# Altium integrated library TI Power Management PCMCIA and USB.IntLib: 328 symbols (part 7 of 14)
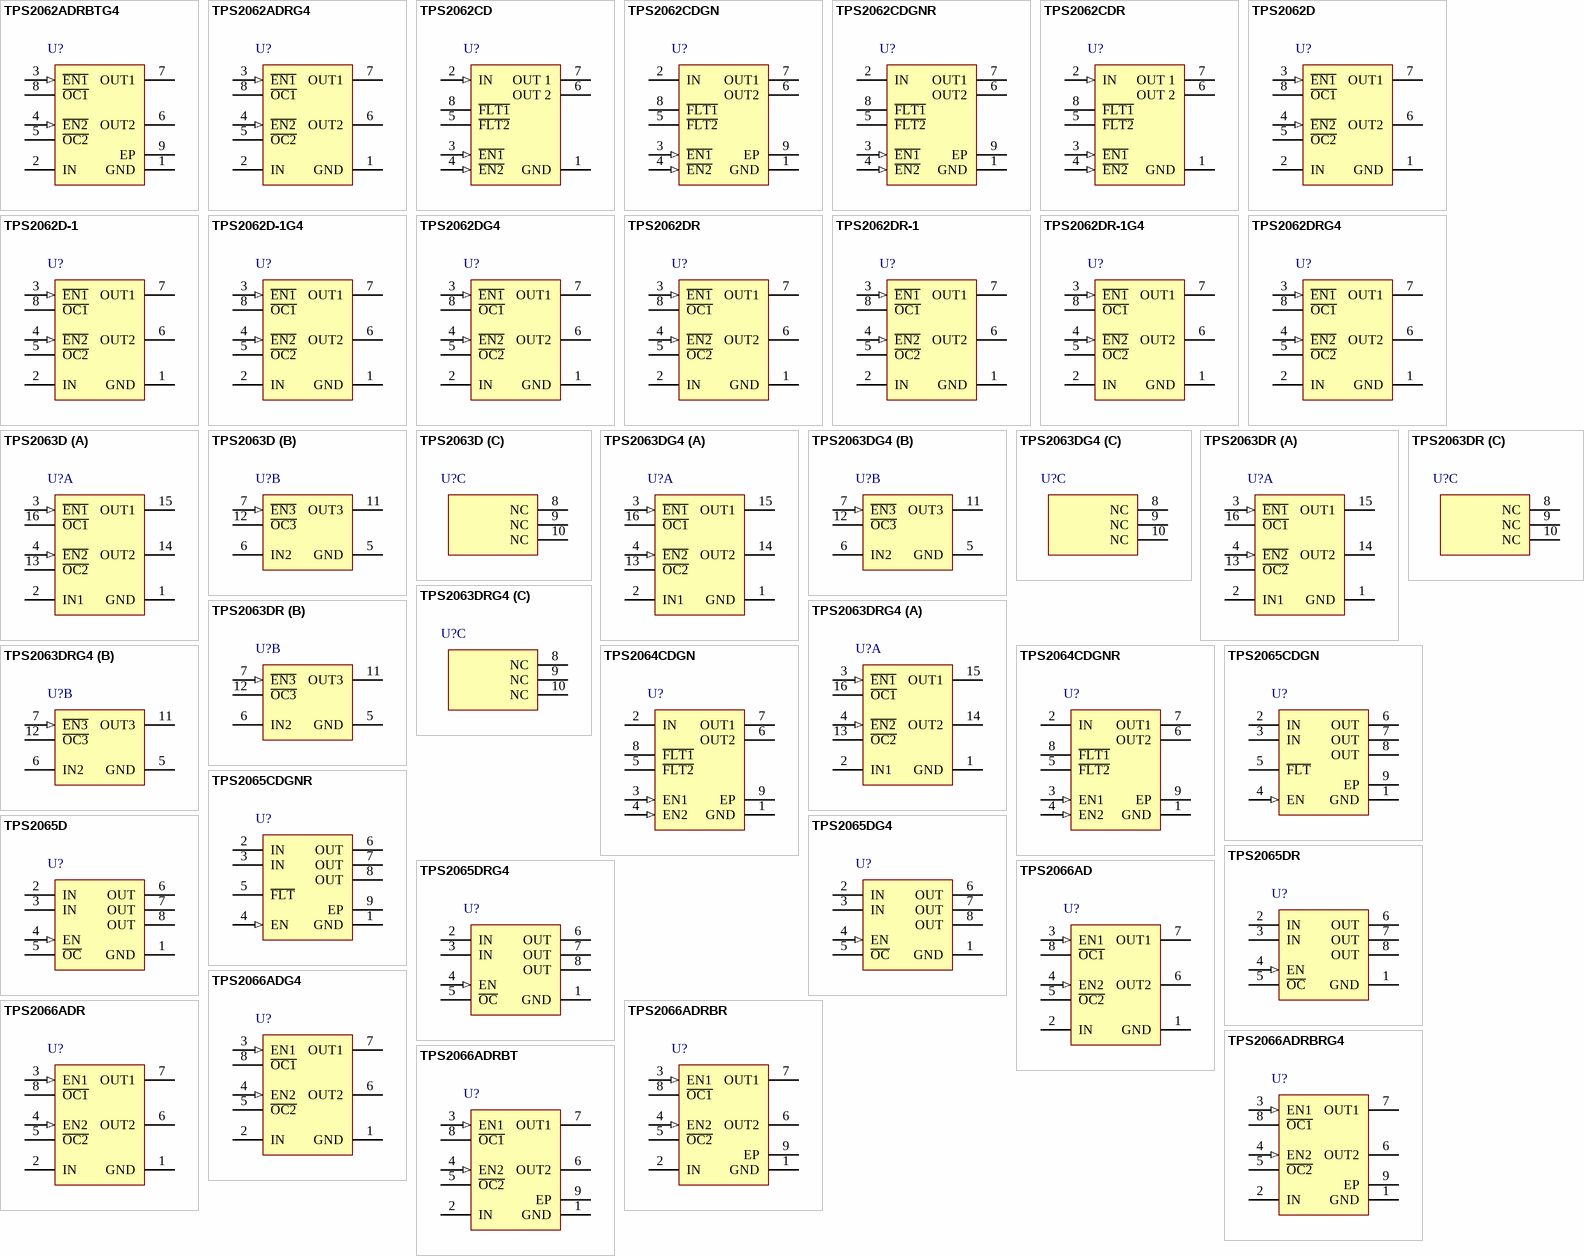
[diagram p16: symbols TPS2062ADRBTG4 to TPS2066ADRBT]

## TPS2062DR-1
designator U?
Current-Limited, Power-Distribution Switch with Output Discharge Resistor, 1.5 A Current Limit, -40 to 85 degC, 8-pin SOIC (D), Green (RoHS & no Sb/Br); Manufacturer: Texas Instruments; PartNumber: TPS2062DR-1; Continuous Current(Max)(A): 1; Current Limit(A): 1.5; Discharge Function: TRUE; Enable: Active Low; Number of Switches: 2; Rating: Catalog; rDS(on) per FET(Typ)(mOhms): 70; Vin(Max)(V): 5.5; Vin(Min)(V): 2.7; DatasheetVersion: SLVS714A; PackageVersion: revM, Jun-2011; PackageReference: D8; PackageDescription: 8-Pin Plastic Small Outline Integrated Circuit, 4.9 x 3.9 mm, Pitch 1.27 mm Pitch; Supplier 1: Digi-Key; Supplier Part Number 1: 296-21658-2-ND; Supplier 2: Digi-Key; Supplier Part Number 2: 296-21658-1-ND; Supplier 3: Digi-Key; Supplier Part Number 3: 296-21658-6-ND; Supplier 4: Newark; Supplier Part Number 4: 34M0139; Supplier 5: Mouser; Supplier Part Number 5: 595-TPS2062DR-1; Eco-Plan: Green (RoHS & no Sb/Br); Mounting Technology: Surface Mount; Code_JEDEC: MS-012AA; ComponentLink1Description: Datasheet; ComponentLink1URL: http://www.ti.com/general/docs/lit/getliterature.tsp?genericPartNumber=TPS2062-1&fileType=pdf
footprint D8_N (SOIC, 8-Leads, Body 4.9x3.9mm, Pitch 1.27mm, IPC Medium Density)
footprint D8_L (SOIC, 8-Leads, Body 4.9x3.9mm, Pitch 1.27mm, IPC High Density)
footprint D8_M (SOIC, 8-Leads, Body 4.9x3.9mm, Pitch 1.27mm, IPC Low Density)
pins: 1 GND (power) "Ground connection", 2 IN (power) "Input voltage; connect a 0.1 uF or greater ceramic capacitor from IN to GND as close to the IC as possible", 3 ~{EN1} (in) "Enable input, logic low turns on channel 1", 4 ~{EN2} (in) "Enable input, logic high turns on channel 2", 5 ~{OC2} (oc) "Active-low open-drain output, asserted during over-current for channel 2", 6 OUT2 (power) "Power-switch output for channel 2", 7 OUT1 (power) "Power-switch output for channel 1", 8 ~{OC1} (oc) "Active-low open-drain output, asserted during over-current for channel 1"

## TPS2062DR-1G4
designator U?
Current-Limited, Power-Distribution Switch with Output Discharge Resistor, 1.5 A Current Limit, -40 to 85 degC, 8-pin SOIC (D), Green (RoHS & no Sb/Br); Manufacturer: Texas Instruments; PartNumber: TPS2062DR-1G4; Continuous Current(Max)(A): 1; Current Limit(A): 1.5; Discharge Function: TRUE; Enable: Active Low; Number of Switches: 2; Rating: Catalog; rDS(on) per FET(Typ)(mOhms): 70; Vin(Max)(V): 5.5; Vin(Min)(V): 2.7; DatasheetVersion: SLVS714A; PackageVersion: revM, Jun-2011; PackageReference: D8; PackageDescription: 8-Pin Plastic Small Outline Integrated Circuit, 4.9 x 3.9 mm, Pitch 1.27 mm Pitch; Supplier 1: Digi-Key; Supplier Part Number 1: TPS2062DR-1G4-ND; Supplier 2: Newark; Supplier Part Number 2: 41M5846; Supplier 3: Mouser; Supplier Part Number 3: 595-TPS2062DR-1G4; Eco-Plan: Green (RoHS & no Sb/Br); Mounting Technology: Surface Mount; Code_JEDEC: MS-012AA; ComponentLink1Description: Datasheet; ComponentLink1URL: http://www.ti.com/general/docs/lit/getliterature.tsp?genericPartNumber=TPS2062-1&fileType=pdf
footprint D8_N (SOIC, 8-Leads, Body 4.9x3.9mm, Pitch 1.27mm, IPC Medium Density)
footprint D8_L (SOIC, 8-Leads, Body 4.9x3.9mm, Pitch 1.27mm, IPC High Density)
footprint D8_M (SOIC, 8-Leads, Body 4.9x3.9mm, Pitch 1.27mm, IPC Low Density)
pins: 1 GND (power) "Ground connection", 2 IN (power) "Input voltage; connect a 0.1 uF or greater ceramic capacitor from IN to GND as close to the IC as possible", 3 ~{EN1} (in) "Enable input, logic low turns on channel 1", 4 ~{EN2} (in) "Enable input, logic high turns on channel 2", 5 ~{OC2} (oc) "Active-low open-drain output, asserted during over-current for channel 2", 6 OUT2 (power) "Power-switch output for channel 2", 7 OUT1 (power) "Power-switch output for channel 1", 8 ~{OC1} (oc) "Active-low open-drain output, asserted during over-current for channel 1"

## TPS2062DRG4
designator U?
Dual 1 A Current-Limited, Power-Distribution Switch, 1.5 A Current Limit, -40 to 85 degC, 8-pin SOIC (D), Green (RoHS & no Sb/Br); Manufacturer: Texas Instruments; PartNumber: TPS2062DRG4; Continuous Current(Max)(A): 1; Current Limit(A): 1.5; Enable: Active Low; NEMKO: TRUE; Number of Switches: 2; Rating: Catalog; rDS(on) per FET(Typ)(mOhms): 70; Vin(Max)(V): 5.5; Vin(Min)(V): 2.7; DatasheetVersion: SLVS490I; PackageVersion: revM, Jun-2011; PackageReference: D8; PackageDescription: 8-Pin Plastic Small Outline Integrated Circuit, 4.9 x 3.9 mm, Pitch 1.27 mm Pitch; Supplier 1: Digi-Key; Supplier Part Number 1: TPS2062DRG4-ND; Supplier 2: Newark; Supplier Part Number 2: 31K7810; Supplier 3: Mouser; Supplier Part Number 3: 595-TPS2062DRG4; Eco-Plan: Green (RoHS & no Sb/Br); UL Listed: TRUE; Mounting Technology: Surface Mount; Code_JEDEC: MS-012AA; ComponentLink1Description: Datasheet; ComponentLink1URL: http://www.ti.com/general/docs/lit/getliterature.tsp?genericPartNumber=TPS2062&fileType=pdf
footprint D8_N (SOIC, 8-Leads, Body 4.9x3.9mm, Pitch 1.27mm, IPC Medium Density)
footprint D8_L (SOIC, 8-Leads, Body 4.9x3.9mm, Pitch 1.27mm, IPC High Density)
footprint D8_M (SOIC, 8-Leads, Body 4.9x3.9mm, Pitch 1.27mm, IPC Low Density)
pins: 1 GND (power) "Ground", 2 IN (power) "Input voltage", 3 ~{EN1} (in) "Enable input, logic low turns on power switch IN-OUT1", 4 ~{EN2} (in) "Enable input, logic low turns on power switch IN-OUT2", 5 ~{OC2} (oc) "Overcurrent, open-drain output, active low, IN-OUT2", 6 OUT2 (power) "Power-switch output, IN-OUT2", 7 OUT1 (power) "Power-switch output, IN-OUT1", 8 ~{OC1} (oc) "Overcurrent, open-drain output, active low, IN-OUT1"

## TPS2063D
designator U?
Triple 1 A Current-Limited, Power-Distribution Switch, 1.5 A Current Limit, -40 to 85 degC, 16-pin SOIC (D), Green (RoHS & no Sb/Br); Manufacturer: Texas Instruments; PartNumber: TPS2063D; Continuous Current(Max)(A): 1; Current Limit(A): 1.5; Enable: Active Low; NEMKO: TRUE; Number of Switches: 3; Rating: Catalog; rDS(on) per FET(Typ)(mOhms): 70; Vin(Max)(V): 5.5; Vin(Min)(V): 2.7; DatasheetVersion: SLVS490I; PackageVersion: revM, Jun-2011; PackageReference: D16; PackageDescription: 16-Pin Plastic Small Outline Integrated Circuit, 9.9 x 3.9 mm, Pitch 1.27 mm Pitch; Supplier 1: Digi-Key; Supplier Part Number 1: 296-34588-5-ND; Supplier 2: Newark; Supplier Part Number 2: 44J2502; Supplier 3: Mouser; Supplier Part Number 3: 595-TPS2063D; Eco-Plan: Green (RoHS & no Sb/Br); UL Listed: TRUE; Mounting Technology: Surface Mount; Code_JEDEC: MS-012AC; ComponentLink1Description: Datasheet; ComponentLink1URL: http://www.ti.com/general/docs/lit/getliterature.tsp?genericPartNumber=TPS2063&fileType=pdf
footprint D16_N (SOIC, 16-Leads, Body 9.9x3.9mm, Pitch 1.27mm, IPC Medium Density)
footprint D16_L (SOIC, 16-Leads, Body 9.9x3.9mm, Pitch 1.27mm, IPC High Density)
footprint D16_M (SOIC, 16-Leads, Body 9.9x3.9mm, Pitch 1.27mm, IPC Low Density)
part A pins: 1 GND (power) "Ground", 2 IN1 (power) "Input voltage for OUT1 and OUT2", 3 ~{EN1} (in) "Enable input, logic low turns on power switch IN1-OUT1", 4 ~{EN2} (in) "Enable input, logic low turns on power switch IN1-OUT2", 13 ~{OC2} (oc) "Overcurrent, open-drain output, active low, IN1-OUT2", 14 OUT2 (power) "Power-switch output, IN1-OUT2", 15 OUT1 (power) "Power-switch output, IN1-OUT1", 16 ~{OC1} (oc) "Overcurrent, open-drain output, active low, IN1-OUT1"
part B pins: 5 GND (power) "Ground", 6 IN2 (power) "Input voltage for OUT3", 7 ~{EN3} (in) "Enable input, logic low turns on power switch IN2-OUT3", 11 OUT3 (power) "Power-switch output, IN2-OUT3", 12 ~{OC3} (oc) "Overcurrent, open-drain output, active low, IN2-OUT3"
part C pins: 8 NC "No connection", 9 NC "No connection", 10 NC "No connection"

## TPS2063DG4
designator U?
Triple 1 A Current-Limited, Power-Distribution Switch, 1.5 A Current Limit, -40 to 85 degC, 16-pin SOIC (D), Green (RoHS & no Sb/Br); Manufacturer: Texas Instruments; PartNumber: TPS2063DG4; Continuous Current(Max)(A): 1; Current Limit(A): 1.5; Enable: Active Low; NEMKO: TRUE; Number of Switches: 3; Rating: Catalog; rDS(on) per FET(Typ)(mOhms): 70; Vin(Max)(V): 5.5; Vin(Min)(V): 2.7; DatasheetVersion: SLVS490I; PackageVersion: revM, Jun-2011; PackageReference: D16; PackageDescription: 16-Pin Plastic Small Outline Integrated Circuit, 9.9 x 3.9 mm, Pitch 1.27 mm Pitch; Supplier 1: Digi-Key; Supplier Part Number 1: TPS2063DG4-ND; Supplier 2: Newark; Supplier Part Number 2: 61K1872; Supplier 3: Mouser; Supplier Part Number 3: 595-TPS2063DG4; Eco-Plan: Green (RoHS & no Sb/Br); UL Listed: TRUE; Mounting Technology: Surface Mount; Code_JEDEC: MS-012AC; ComponentLink1Description: Datasheet; ComponentLink1URL: http://www.ti.com/general/docs/lit/getliterature.tsp?genericPartNumber=TPS2063&fileType=pdf
footprint D16_N (SOIC, 16-Leads, Body 9.9x3.9mm, Pitch 1.27mm, IPC Medium Density)
footprint D16_L (SOIC, 16-Leads, Body 9.9x3.9mm, Pitch 1.27mm, IPC High Density)
footprint D16_M (SOIC, 16-Leads, Body 9.9x3.9mm, Pitch 1.27mm, IPC Low Density)
part A pins: 1 GND (power) "Ground", 2 IN1 (power) "Input voltage for OUT1 and OUT2", 3 ~{EN1} (in) "Enable input, logic low turns on power switch IN1-OUT1", 4 ~{EN2} (in) "Enable input, logic low turns on power switch IN1-OUT2", 13 ~{OC2} (oc) "Overcurrent, open-drain output, active low, IN1-OUT2", 14 OUT2 (power) "Power-switch output, IN1-OUT2", 15 OUT1 (power) "Power-switch output, IN1-OUT1", 16 ~{OC1} (oc) "Overcurrent, open-drain output, active low, IN1-OUT1"
part B pins: 5 GND (power) "Ground", 6 IN2 (power) "Input voltage for OUT3", 7 ~{EN3} (in) "Enable input, logic low turns on power switch IN2-OUT3", 11 OUT3 (power) "Power-switch output, IN2-OUT3", 12 ~{OC3} (oc) "Overcurrent, open-drain output, active low, IN2-OUT3"
part C pins: 8 NC "No connection", 9 NC "No connection", 10 NC "No connection"

## TPS2063DR
designator U?
Triple 1 A Current-Limited, Power-Distribution Switch, 1.5 A Current Limit, -40 to 85 degC, 16-pin SOIC (D), Green (RoHS & no Sb/Br); Manufacturer: Texas Instruments; PartNumber: TPS2063DR; Continuous Current(Max)(A): 1; Current Limit(A): 1.5; Enable: Active Low; NEMKO: TRUE; Number of Switches: 3; Rating: Catalog; rDS(on) per FET(Typ)(mOhms): 70; Vin(Max)(V): 5.5; Vin(Min)(V): 2.7; DatasheetVersion: SLVS490I; PackageVersion: revM, Jun-2011; PackageReference: D16; PackageDescription: 16-Pin Plastic Small Outline Integrated Circuit, 9.9 x 3.9 mm, Pitch 1.27 mm Pitch; Supplier 1: Digi-Key; Supplier Part Number 1: 296-17386-2-ND; Supplier 2: Digi-Key; Supplier Part Number 2: 296-17386-1-ND; Supplier 3: Digi-Key; Supplier Part Number 3: 296-17386-6-ND; Supplier 4: Newark; Supplier Part Number 4: 44J2503; Supplier 5: Mouser; Supplier Part Number 5: 595-TPS2063DR; Eco-Plan: Green (RoHS & no Sb/Br); UL Listed: TRUE; Mounting Technology: Surface Mount; Code_JEDEC: MS-012AC; ComponentLink1Description: Datasheet; ComponentLink1URL: http://www.ti.com/general/docs/lit/getliterature.tsp?genericPartNumber=TPS2063&fileType=pdf
footprint D16_N (SOIC, 16-Leads, Body 9.9x3.9mm, Pitch 1.27mm, IPC Medium Density)
footprint D16_L (SOIC, 16-Leads, Body 9.9x3.9mm, Pitch 1.27mm, IPC High Density)
footprint D16_M (SOIC, 16-Leads, Body 9.9x3.9mm, Pitch 1.27mm, IPC Low Density)
part A pins: 1 GND (power) "Ground", 2 IN1 (power) "Input voltage for OUT1 and OUT2", 3 ~{EN1} (in) "Enable input, logic low turns on power switch IN1-OUT1", 4 ~{EN2} (in) "Enable input, logic low turns on power switch IN1-OUT2", 13 ~{OC2} (oc) "Overcurrent, open-drain output, active low, IN1-OUT2", 14 OUT2 (power) "Power-switch output, IN1-OUT2", 15 OUT1 (power) "Power-switch output, IN1-OUT1", 16 ~{OC1} (oc) "Overcurrent, open-drain output, active low, IN1-OUT1"
part B pins: 5 GND (power) "Ground", 6 IN2 (power) "Input voltage for OUT3", 7 ~{EN3} (in) "Enable input, logic low turns on power switch IN2-OUT3", 11 OUT3 (power) "Power-switch output, IN2-OUT3", 12 ~{OC3} (oc) "Overcurrent, open-drain output, active low, IN2-OUT3"
part C pins: 8 NC "No connection", 9 NC "No connection", 10 NC "No connection"

## TPS2063DRG4
designator U?
Triple 1 A Current-Limited, Power-Distribution Switch, 1.5 A Current Limit, -40 to 85 degC, 16-pin SOIC (D), Green (RoHS & no Sb/Br); Manufacturer: Texas Instruments; PartNumber: TPS2063DRG4; Continuous Current(Max)(A): 1; Current Limit(A): 1.5; Enable: Active Low; NEMKO: TRUE; Number of Switches: 3; Rating: Catalog; rDS(on) per FET(Typ)(mOhms): 70; Vin(Max)(V): 5.5; Vin(Min)(V): 2.7; DatasheetVersion: SLVS490I; PackageVersion: revM, Jun-2011; PackageReference: D16; PackageDescription: 16-Pin Plastic Small Outline Integrated Circuit, 9.9 x 3.9 mm, Pitch 1.27 mm Pitch; Supplier 1: Digi-Key; Supplier Part Number 1: TPS2063DRG4-ND; Supplier 2: Newark; Supplier Part Number 2: 61K1873; Supplier 3: Mouser; Supplier Part Number 3: 595-TPS2063DRG4; Eco-Plan: Green (RoHS & no Sb/Br); UL Listed: TRUE; Mounting Technology: Surface Mount; Code_JEDEC: MS-012AC; ComponentLink1Description: Datasheet; ComponentLink1URL: http://www.ti.com/general/docs/lit/getliterature.tsp?genericPartNumber=TPS2063&fileType=pdf
footprint D16_N (SOIC, 16-Leads, Body 9.9x3.9mm, Pitch 1.27mm, IPC Medium Density)
footprint D16_L (SOIC, 16-Leads, Body 9.9x3.9mm, Pitch 1.27mm, IPC High Density)
footprint D16_M (SOIC, 16-Leads, Body 9.9x3.9mm, Pitch 1.27mm, IPC Low Density)
part A pins: 1 GND (power) "Ground", 2 IN1 (power) "Input voltage for OUT1 and OUT2", 3 ~{EN1} (in) "Enable input, logic low turns on power switch IN1-OUT1", 4 ~{EN2} (in) "Enable input, logic low turns on power switch IN1-OUT2", 13 ~{OC2} (oc) "Overcurrent, open-drain output, active low, IN1-OUT2", 14 OUT2 (power) "Power-switch output, IN1-OUT2", 15 OUT1 (power) "Power-switch output, IN1-OUT1", 16 ~{OC1} (oc) "Overcurrent, open-drain output, active low, IN1-OUT1"
part B pins: 5 GND (power) "Ground", 6 IN2 (power) "Input voltage for OUT3", 7 ~{EN3} (in) "Enable input, logic low turns on power switch IN2-OUT3", 11 OUT3 (power) "Power-switch output, IN2-OUT3", 12 ~{OC3} (oc) "Overcurrent, open-drain output, active low, IN2-OUT3"
part C pins: 8 NC "No connection", 9 NC "No connection", 10 NC "No connection"

## TPS2064CDGN
designator U?
Dual-Channel, Current-Limited, Power-Distribution Switch, 1.72 to 2.86 A Current Limit, -40 to 85 degC, 8-pin MSOP-PowerPAD (DGN), Green (RoHS & no Sb/Br); Manufacturer: Texas Instruments; PartNumber: TPS2064CDGN; Continuous Current(Max)(A): 1.5; Current Limit Accuracy @ 1A: +/- 25%; Current Limit Topology: Constant-Current; Enable: Active High; Number of Switches: 2; Rating: Catalog; rDS(on) per FET(Typ)(mOhms): 70; Vin(Max)(V): 5.5; Vin(Min)(V): 4.5; DatasheetVersion: SLVSAX6E; PackageVersion: revF, May-2011; PackageReference: DGN8-1760X1425TP; PackageDescription: 8-Pin PowerPAD Plastic Small Outline Package 3 x 3 mm Body ,0.65 mm Pitch, Exposed Pad; Supplier 1: Digi-Key; Supplier Part Number 1: 296-29888-5-ND; Supplier 2: Newark; Supplier Part Number 2: 74T5504; Supplier 3: Mouser; Supplier Part Number 3: 595-TPS2064CDGN; Current Limit(A): 1.72 to 2.86; Eco-Plan: Green (RoHS & no Sb/Br); Mounting Technology: Surface Mount; Code_JEDEC: MO-187-AA-T; ComponentLink1Description: Datasheet; ComponentLink1URL: http://www.ti.com/general/docs/lit/getliterature.tsp?genericPartNumber=TPS2064C&fileType=pdf
footprint DGN8-1760X1425TP_N (TSOP, 8-Leads, Body 3x3mm, Pitch 0.65mm, Thermal Pad 1.89x1.57mm, IPC Medium Density)
footprint DGN8-1760X1425TP_L (TSOP, 8-Leads, Body 3x3mm, Pitch 0.65mm, Thermal Pad 1.89x1.57mm, IPC High Density)
footprint DGN8-1760X1425TP_M (TSOP, 8-Leads, Body 3x3mm, Pitch 0.65mm, Thermal Pad 1.89x1.57mm, IPC Low Density)
pins: 1 GND (power) "Ground connection", 2 IN (power) "Ground connection", 3 EN1 (in) "Enable input channel 1, logic high turns on power switch", 4 EN2 (in) "Enable input channel 2, logic high turns on power switch", 5 ~{FLT2} (hiz) "Active-low open-drain output, asserted during overcurrent, or overtemperature conditions on channel 2", 6 OUT2 (power) "Power-switch output channel 2, connected to load", 7 OUT1 (power) "Power-switch output channel 1, connected to load", 8 ~{FLT1} (hiz) "Active-low open-drain output, asserted during over-current, or overtemperature conditions on channel 1", 9 EP (power) "Internally connected to GND; used to heat-sink the part to the circuit board traces. Connect PAD to GND plane as a heatsink."

## TPS2064CDGNR
designator U?
Dual-Channel, Current-Limited, Power-Distribution Switch, 1.72 to 2.86 A Current Limit, -40 to 85 degC, 8-pin MSOP-PowerPAD (DGN), Green (RoHS & no Sb/Br); Manufacturer: Texas Instruments; PartNumber: TPS2064CDGNR; Continuous Current(Max)(A): 1.5; Current Limit Accuracy @ 1A: +/- 25%; Current Limit Topology: Constant-Current; Enable: Active High; Number of Switches: 2; Rating: Catalog; rDS(on) per FET(Typ)(mOhms): 70; Vin(Max)(V): 5.5; Vin(Min)(V): 4.5; DatasheetVersion: SLVSAX6E; PackageVersion: revF, May-2011; PackageReference: DGN8-1760X1425TP; PackageDescription: 8-Pin PowerPAD Plastic Small Outline Package 3 x 3 mm Body ,0.65 mm Pitch, Exposed Pad; Supplier 1: Digi-Key; Supplier Part Number 1: TPS2064CDGNR-ND; Supplier 2: Newark; Supplier Part Number 2: 74T5505; Supplier 3: Mouser; Supplier Part Number 3: 595-TPS2064CDGNR; Current Limit(A): 1.72 to 2.86; Eco-Plan: Green (RoHS & no Sb/Br); Mounting Technology: Surface Mount; Code_JEDEC: MO-187-AA-T; ComponentLink1Description: Datasheet; ComponentLink1URL: http://www.ti.com/general/docs/lit/getliterature.tsp?genericPartNumber=TPS2064C&fileType=pdf
footprint DGN8-1760X1425TP_N (TSOP, 8-Leads, Body 3x3mm, Pitch 0.65mm, Thermal Pad 1.89x1.57mm, IPC Medium Density)
footprint DGN8-1760X1425TP_L (TSOP, 8-Leads, Body 3x3mm, Pitch 0.65mm, Thermal Pad 1.89x1.57mm, IPC High Density)
footprint DGN8-1760X1425TP_M (TSOP, 8-Leads, Body 3x3mm, Pitch 0.65mm, Thermal Pad 1.89x1.57mm, IPC Low Density)
pins: 1 GND (power) "Ground connection", 2 IN (power) "Ground connection", 3 EN1 (in) "Enable input channel 1, logic high turns on power switch", 4 EN2 (in) "Enable input channel 2, logic high turns on power switch", 5 ~{FLT2} (hiz) "Active-low open-drain output, asserted during overcurrent, or overtemperature conditions on channel 2", 6 OUT2 (power) "Power-switch output channel 2, connected to load", 7 OUT1 (power) "Power-switch output channel 1, connected to load", 8 ~{FLT1} (hiz) "Active-low open-drain output, asserted during over-current, or overtemperature conditions on channel 1", 9 EP (power) "Internally connected to GND; used to heat-sink the part to the circuit board traces. Connect PAD to GND plane as a heatsink."

## TPS2065CDGN
designator U?
Single Channel, Current-Limited USB Power Distribution Switch, 1.55 A Current Limit, -40 to 85 degC, 8-pin MSOP-PowerPAD (DGN), Green (RoHS & no Sb/Br); Manufacturer: Texas Instruments; PartNumber: TPS2065CDGN; Continuous Current(Max)(A): 1; Current Limit(A): 1.55; Discharge Function: TRUE; Enable: Active High; Rating: Catalog; rDS(on) per FET(Typ)(mOhms): 90; Vin(Max)(V): 5.5; Vin(Min)(V): 4.5; DatasheetVersion: SLVSAU6E; PackageVersion: revF, May-2011; PackageReference: DGN8-1760X1425TP; PackageDescription: 8-Pin PowerPAD Plastic Small Outline Package 3 x 3 mm Body ,0.65 mm Pitch, Exposed Pad; Supplier 1: Digi-Key; Supplier Part Number 1: 296-29508-5-ND; Supplier 2: Farnell; Supplier Part Number 2: 2057439; Supplier 3: Newark; Supplier Part Number 3: 64T4206; Supplier 4: Newark; Supplier Part Number 4: 61T6039; Supplier 5: Mouser; Supplier Part Number 5: 595-TPS2065CDGN; Eco-Plan: Green (RoHS & no Sb/Br); Number of Switches: 1; UL Listed: TRUE; Mounting Technology: Surface Mount; Code_JEDEC: MO-187-AA-T; ComponentLink1Description: Datasheet; ComponentLink1URL: http://www.ti.com/general/docs/lit/getliterature.tsp?genericPartNumber=TPS2065C&fileType=pdf
footprint DGN8-1760X1425TP_N (TSOP, 8-Leads, Body 3x3mm, Pitch 0.65mm, Thermal Pad 1.89x1.57mm, IPC Medium Density)
footprint DGN8-1760X1425TP_L (TSOP, 8-Leads, Body 3x3mm, Pitch 0.65mm, Thermal Pad 1.89x1.57mm, IPC High Density)
footprint DGN8-1760X1425TP_M (TSOP, 8-Leads, Body 3x3mm, Pitch 0.65mm, Thermal Pad 1.89x1.57mm, IPC Low Density)
pins: 1 GND (power) "Ground connection", 2 IN (power) "Input voltage and power-switch drain; connect a 0.1 uF or greater ceramic capacitor from IN to GND close to the IC", 3 IN (power) "Input voltage and power-switch drain; connect a 0.1 uF or greater ceramic capacitor from IN to GND close to the IC", 4 EN (in) "Enable input, logic high turns on power switch", 5 ~{FLT} (hiz) "Active-low open-drain output, asserted during over-current, or over-temperature conditions", 6 OUT (power) "Power-switch output, connect to load", 7 OUT (power) "Power-switch output, connect to load", 8 OUT (power) "Power-switch output, connect to load", 9 EP (power) "Internally connected to GND. Connect PAD to GND plane as a heatsink for the best thermal performance.PAD may be left floating if desired. See POWER DISSIPATION AND JUNCTION TEMPERATURE section for guidance."

## TPS2065CDGNR
designator U?
Single Channel, Current-Limited USB Power Distribution Switch, 1.55 A Current Limit, -40 to 85 degC, 8-pin MSOP-PowerPAD (DGN), Green (RoHS & no Sb/Br); Manufacturer: Texas Instruments; PartNumber: TPS2065CDGNR; Continuous Current(Max)(A): 1; Current Limit(A): 1.55; Discharge Function: TRUE; Enable: Active High; Rating: Catalog; rDS(on) per FET(Typ)(mOhms): 90; Vin(Max)(V): 5.5; Vin(Min)(V): 4.5; DatasheetVersion: SLVSAU6E; PackageVersion: revF, May-2011; PackageReference: DGN8-1760X1425TP; PackageDescription: 8-Pin PowerPAD Plastic Small Outline Package 3 x 3 mm Body ,0.65 mm Pitch, Exposed Pad; Supplier 1: Digi-Key; Supplier Part Number 1: 296-29354-2-ND; Supplier 2: Digi-Key; Supplier Part Number 2: 296-29354-1-ND; Supplier 3: Digi-Key; Supplier Part Number 3: 296-29354-6-ND; Supplier 4: Newark; Supplier Part Number 4: 61T6040; Supplier 5: Mouser; Supplier Part Number 5: 595-TPS2065CDGNR; Eco-Plan: Green (RoHS & no Sb/Br); Number of Switches: 1; UL Listed: TRUE; Mounting Technology: Surface Mount; Code_JEDEC: MO-187-AA-T; ComponentLink1Description: Datasheet; ComponentLink1URL: http://www.ti.com/general/docs/lit/getliterature.tsp?genericPartNumber=TPS2065C&fileType=pdf
footprint DGN8-1760X1425TP_N (TSOP, 8-Leads, Body 3x3mm, Pitch 0.65mm, Thermal Pad 1.89x1.57mm, IPC Medium Density)
footprint DGN8-1760X1425TP_L (TSOP, 8-Leads, Body 3x3mm, Pitch 0.65mm, Thermal Pad 1.89x1.57mm, IPC High Density)
footprint DGN8-1760X1425TP_M (TSOP, 8-Leads, Body 3x3mm, Pitch 0.65mm, Thermal Pad 1.89x1.57mm, IPC Low Density)
pins: 1 GND (power) "Ground connection", 2 IN (power) "Input voltage and power-switch drain; connect a 0.1 uF or greater ceramic capacitor from IN to GND close to the IC", 3 IN (power) "Input voltage and power-switch drain; connect a 0.1 uF or greater ceramic capacitor from IN to GND close to the IC", 4 EN (in) "Enable input, logic high turns on power switch", 5 ~{FLT} (hiz) "Active-low open-drain output, asserted during over-current, or over-temperature conditions", 6 OUT (power) "Power-switch output, connect to load", 7 OUT (power) "Power-switch output, connect to load", 8 OUT (power) "Power-switch output, connect to load", 9 EP (power) "Internally connected to GND. Connect PAD to GND plane as a heatsink for the best thermal performance.PAD may be left floating if desired. See POWER DISSIPATION AND JUNCTION TEMPERATURE section for guidance."

## TPS2065D
designator U?
Single 1 A Current-Limited, Power-Distribution Switch for USB Applications, 1.5 A Current Limit, -40 to 85 degC, 8-pin SOIC (D), Green (RoHS & no Sb/Br); Manufacturer: Texas Instruments; PartNumber: TPS2065D; Continuous Current(Max)(A): 1; Current Limit(A): 1.5; Enable: Active High; NEMKO: TRUE; Rating: Catalog; rDS(on) per FET(Typ)(mOhms): 70; Vin(Max)(V): 5.5; Vin(Min)(V): 2.7; DatasheetVersion: SLVS490I; PackageVersion: revM, Jun-2011; PackageReference: D8; PackageDescription: 8-Pin Plastic Small Outline Integrated Circuit, 4.9 x 3.9 mm, Pitch 1.27 mm Pitch; Supplier 1: Digi-Key; Supplier Part Number 1: 296-34589-5-ND; Supplier 2: Newark; Supplier Part Number 2: 44J2504; Supplier 3: Mouser; Supplier Part Number 3: 595-TPS2065D; Eco-Plan: Green (RoHS & no Sb/Br); Number of Switches: 1; UL Listed: TRUE; Mounting Technology: Surface Mount; Code_JEDEC: MS-012AA; ComponentLink1Description: Datasheet; ComponentLink1URL: http://www.ti.com/general/docs/lit/getliterature.tsp?genericPartNumber=TPS2065&fileType=pdf
footprint D8_N (SOIC, 8-Leads, Body 4.9x3.9mm, Pitch 1.27mm, IPC Medium Density)
footprint D8_L (SOIC, 8-Leads, Body 4.9x3.9mm, Pitch 1.27mm, IPC High Density)
footprint D8_M (SOIC, 8-Leads, Body 4.9x3.9mm, Pitch 1.27mm, IPC Low Density)
pins: 1 GND (power) "Ground", 2 IN (power) "Input voltage", 3 IN (power) "Input voltage", 4 EN (in) "Enable input, logic high turns on power switch", 5 ~{OC} (oc) "Overcurrent, open-drain output, active-low", 6 OUT (power) "Power-switch output", 7 OUT (power) "Power-switch output", 8 OUT (power) "Power-switch output"

## TPS2065DG4
designator U?
Single 1 A Current-Limited, Power-Distribution Switch for USB Applications, 1.5 A Current Limit, -40 to 85 degC, 8-pin SOIC (D), Green (RoHS & no Sb/Br); Manufacturer: Texas Instruments; PartNumber: TPS2065DG4; Continuous Current(Max)(A): 1; Current Limit(A): 1.5; Enable: Active High; NEMKO: TRUE; Rating: Catalog; rDS(on) per FET(Typ)(mOhms): 70; Vin(Max)(V): 5.5; Vin(Min)(V): 2.7; DatasheetVersion: SLVS490I; PackageVersion: revM, Jun-2011; PackageReference: D8; PackageDescription: 8-Pin Plastic Small Outline Integrated Circuit, 4.9 x 3.9 mm, Pitch 1.27 mm Pitch; Supplier 1: Digi-Key; Supplier Part Number 1: TPS2065DG4-ND; Supplier 2: Newark; Supplier Part Number 2: 33K7543; Supplier 3: Mouser; Supplier Part Number 3: 595-TPS2065DG4; Eco-Plan: Green (RoHS & no Sb/Br); Number of Switches: 1; UL Listed: TRUE; Mounting Technology: Surface Mount; Code_JEDEC: MS-012AA; ComponentLink1Description: Datasheet; ComponentLink1URL: http://www.ti.com/general/docs/lit/getliterature.tsp?genericPartNumber=TPS2065&fileType=pdf
footprint D8_N (SOIC, 8-Leads, Body 4.9x3.9mm, Pitch 1.27mm, IPC Medium Density)
footprint D8_L (SOIC, 8-Leads, Body 4.9x3.9mm, Pitch 1.27mm, IPC High Density)
footprint D8_M (SOIC, 8-Leads, Body 4.9x3.9mm, Pitch 1.27mm, IPC Low Density)
pins: 1 GND (power) "Ground", 2 IN (power) "Input voltage", 3 IN (power) "Input voltage", 4 EN (in) "Enable input, logic high turns on power switch", 5 ~{OC} (oc) "Overcurrent, open-drain output, active-low", 6 OUT (power) "Power-switch output", 7 OUT (power) "Power-switch output", 8 OUT (power) "Power-switch output"

## TPS2065DR
designator U?
Single 1 A Current-Limited, Power-Distribution Switch for USB Applications, 1.5 A Current Limit, -40 to 85 degC, 8-pin SOIC (D), Green (RoHS & no Sb/Br); Manufacturer: Texas Instruments; PartNumber: TPS2065DR; Continuous Current(Max)(A): 1; Current Limit(A): 1.5; Enable: Active High; NEMKO: TRUE; Rating: Catalog; rDS(on) per FET(Typ)(mOhms): 70; Vin(Max)(V): 5.5; Vin(Min)(V): 2.7; DatasheetVersion: SLVS490I; PackageVersion: revM, Jun-2011; PackageReference: D8; PackageDescription: 8-Pin Plastic Small Outline Integrated Circuit, 4.9 x 3.9 mm, Pitch 1.27 mm Pitch; Supplier 1: Digi-Key; Supplier Part Number 1: 296-17315-2-ND; Supplier 2: Digi-Key; Supplier Part Number 2: 296-17315-1-ND; Supplier 3: Digi-Key; Supplier Part Number 3: 296-17315-6-ND; Supplier 4: Newark; Supplier Part Number 4: 44J2507; Supplier 5: Mouser; Supplier Part Number 5: 595-TPS2065DR; Eco-Plan: Green (RoHS & no Sb/Br); Number of Switches: 1; UL Listed: TRUE; Mounting Technology: Surface Mount; Code_JEDEC: MS-012AA; ComponentLink1Description: Datasheet; ComponentLink1URL: http://www.ti.com/general/docs/lit/getliterature.tsp?genericPartNumber=TPS2065&fileType=pdf
footprint D8_N (SOIC, 8-Leads, Body 4.9x3.9mm, Pitch 1.27mm, IPC Medium Density)
footprint D8_L (SOIC, 8-Leads, Body 4.9x3.9mm, Pitch 1.27mm, IPC High Density)
footprint D8_M (SOIC, 8-Leads, Body 4.9x3.9mm, Pitch 1.27mm, IPC Low Density)
pins: 1 GND (power) "Ground", 2 IN (power) "Input voltage", 3 IN (power) "Input voltage", 4 EN (in) "Enable input, logic high turns on power switch", 5 ~{OC} (oc) "Overcurrent, open-drain output, active-low", 6 OUT (power) "Power-switch output", 7 OUT (power) "Power-switch output", 8 OUT (power) "Power-switch output"

## TPS2065DRG4
designator U?
Single 1 A Current-Limited, Power-Distribution Switch for USB Applications, 1.5 A Current Limit, -40 to 85 degC, 8-pin SOIC (D), Green (RoHS & no Sb/Br); Manufacturer: Texas Instruments; PartNumber: TPS2065DRG4; Continuous Current(Max)(A): 1; Current Limit(A): 1.5; Enable: Active High; NEMKO: TRUE; Rating: Catalog; rDS(on) per FET(Typ)(mOhms): 70; Vin(Max)(V): 5.5; Vin(Min)(V): 2.7; DatasheetVersion: SLVS490I; PackageVersion: revM, Jun-2011; PackageReference: D8; PackageDescription: 8-Pin Plastic Small Outline Integrated Circuit, 4.9 x 3.9 mm, Pitch 1.27 mm Pitch; Supplier 1: Digi-Key; Supplier Part Number 1: TPS2065DRG4-ND; Supplier 2: Newark; Supplier Part Number 2: 81K4131; Supplier 3: Mouser; Supplier Part Number 3: 595-TPS2065DRG4; Eco-Plan: Green (RoHS & no Sb/Br); Number of Switches: 1; UL Listed: TRUE; Mounting Technology: Surface Mount; Code_JEDEC: MS-012AA; ComponentLink1Description: Datasheet; ComponentLink1URL: http://www.ti.com/general/docs/lit/getliterature.tsp?genericPartNumber=TPS2065&fileType=pdf
footprint D8_N (SOIC, 8-Leads, Body 4.9x3.9mm, Pitch 1.27mm, IPC Medium Density)
footprint D8_L (SOIC, 8-Leads, Body 4.9x3.9mm, Pitch 1.27mm, IPC High Density)
footprint D8_M (SOIC, 8-Leads, Body 4.9x3.9mm, Pitch 1.27mm, IPC Low Density)
pins: 1 GND (power) "Ground", 2 IN (power) "Input voltage", 3 IN (power) "Input voltage", 4 EN (in) "Enable input, logic high turns on power switch", 5 ~{OC} (oc) "Overcurrent, open-drain output, active-low", 6 OUT (power) "Power-switch output", 7 OUT (power) "Power-switch output", 8 OUT (power) "Power-switch output"

## TPS2066AD
designator U?
Two-Channel, Current-Limited, Power-Distribution Switch, 1.9 A Current Limit, -40 to 85 degC, 8-pin SOIC (D), Green (RoHS & no Sb/Br); Manufacturer: Texas Instruments; PartNumber: TPS2066AD; Continuous Current(Max)(A): 1; Current Limit(A): 1.9; Enable: Active High; Number of Switches: 2; Rating: Catalog; DatasheetVersion: SLVS798F; PackageVersion: revM, Jun-2011; PackageReference: D8; PackageDescription: 8-Pin Plastic Small Outline Integrated Circuit, 4.9 x 3.9 mm, Pitch 1.27 mm Pitch; Supplier 1: Digi-Key; Supplier Part Number 1: 296-34591-5-ND; Supplier 2: Mouser; Supplier Part Number 2: 595-TPS2066AD; Eco-Plan: Green (RoHS & no Sb/Br); Mounting Technology: Surface Mount; Code_JEDEC: MS-012AA; ComponentLink1Description: Datasheet; ComponentLink1URL: http://www.ti.com/general/docs/lit/getliterature.tsp?genericPartNumber=TPS2066A&fileType=pdf
footprint D8_N (SOIC, 8-Leads, Body 4.9x3.9mm, Pitch 1.27mm, IPC Medium Density)
footprint D8_L (SOIC, 8-Leads, Body 4.9x3.9mm, Pitch 1.27mm, IPC High Density)
footprint D8_M (SOIC, 8-Leads, Body 4.9x3.9mm, Pitch 1.27mm, IPC Low Density)
pins: 1 GND (power) "Ground", 2 IN (power) "Input voltage", 3 EN1 (in) "Enable input. Logic high turns on power switch, IN-OUT1.", 4 EN2 (in) "Enable input. Logic high turns on power switch, IN-OUT2.", 5 ~{OC2} (oc) "Channel 2 over-current indicator; the output is open-drain, active low type", 6 OUT2 (power) "Power-switch output, IN-OUT2", 7 OUT1 (power) "Power-switch output, IN-OUT1", 8 ~{OC1} (oc) "Channel 1 over-current indicator; the output is open-drain, active low type"

## TPS2066ADG4
designator U?
Two-Channel, Current-Limited, Power-Distribution Switch, 1.9 A Current Limit, -40 to 85 degC, 8-pin SOIC (D), Green (RoHS & no Sb/Br); Manufacturer: Texas Instruments; PartNumber: TPS2066ADG4; Continuous Current(Max)(A): 1; Current Limit(A): 1.9; Enable: Active High; Number of Switches: 2; Rating: Catalog; DatasheetVersion: SLVS798F; PackageVersion: revM, Jun-2011; PackageReference: D8; PackageDescription: 8-Pin Plastic Small Outline Integrated Circuit, 4.9 x 3.9 mm, Pitch 1.27 mm Pitch; Supplier 1: Digi-Key; Supplier Part Number 1: TPS2066ADG4-ND; Supplier 2: Mouser; Supplier Part Number 2: 595-TPS2066ADG4; Eco-Plan: Green (RoHS & no Sb/Br); Mounting Technology: Surface Mount; Code_JEDEC: MS-012AA; ComponentLink1Description: Datasheet; ComponentLink1URL: http://www.ti.com/general/docs/lit/getliterature.tsp?genericPartNumber=TPS2066A&fileType=pdf
footprint D8_N (SOIC, 8-Leads, Body 4.9x3.9mm, Pitch 1.27mm, IPC Medium Density)
footprint D8_L (SOIC, 8-Leads, Body 4.9x3.9mm, Pitch 1.27mm, IPC High Density)
footprint D8_M (SOIC, 8-Leads, Body 4.9x3.9mm, Pitch 1.27mm, IPC Low Density)
pins: 1 GND (power) "Ground", 2 IN (power) "Input voltage", 3 EN1 (in) "Enable input. Logic high turns on power switch, IN-OUT1.", 4 EN2 (in) "Enable input. Logic high turns on power switch, IN-OUT2.", 5 ~{OC2} (oc) "Channel 2 over-current indicator; the output is open-drain, active low type", 6 OUT2 (power) "Power-switch output, IN-OUT2", 7 OUT1 (power) "Power-switch output, IN-OUT1", 8 ~{OC1} (oc) "Channel 1 over-current indicator; the output is open-drain, active low type"

## TPS2066ADR
designator U?
Two-Channel, Current-Limited, Power-Distribution Switch, 1.9 A Current Limit, -40 to 85 degC, 8-pin SOIC (D), Green (RoHS & no Sb/Br); Manufacturer: Texas Instruments; PartNumber: TPS2066ADR; Continuous Current(Max)(A): 1; Current Limit(A): 1.9; Enable: Active High; Number of Switches: 2; Rating: Catalog; DatasheetVersion: SLVS798F; PackageVersion: revM, Jun-2011; PackageReference: D8; PackageDescription: 8-Pin Plastic Small Outline Integrated Circuit, 4.9 x 3.9 mm, Pitch 1.27 mm Pitch; Supplier 1: Digi-Key; Supplier Part Number 1: 296-23376-2-ND; Supplier 2: Digi-Key; Supplier Part Number 2: 296-23376-1-ND; Supplier 3: Digi-Key; Supplier Part Number 3: 296-23376-6-ND; Supplier 4: Mouser; Supplier Part Number 4: 595-TPS2066ADR; Eco-Plan: Green (RoHS & no Sb/Br); Mounting Technology: Surface Mount; Code_JEDEC: MS-012AA; ComponentLink1Description: Datasheet; ComponentLink1URL: http://www.ti.com/general/docs/lit/getliterature.tsp?genericPartNumber=TPS2066A&fileType=pdf
footprint D8_N (SOIC, 8-Leads, Body 4.9x3.9mm, Pitch 1.27mm, IPC Medium Density)
footprint D8_L (SOIC, 8-Leads, Body 4.9x3.9mm, Pitch 1.27mm, IPC High Density)
footprint D8_M (SOIC, 8-Leads, Body 4.9x3.9mm, Pitch 1.27mm, IPC Low Density)
pins: 1 GND (power) "Ground", 2 IN (power) "Input voltage", 3 EN1 (in) "Enable input. Logic high turns on power switch, IN-OUT1.", 4 EN2 (in) "Enable input. Logic high turns on power switch, IN-OUT2.", 5 ~{OC2} (oc) "Channel 2 over-current indicator; the output is open-drain, active low type", 6 OUT2 (power) "Power-switch output, IN-OUT2", 7 OUT1 (power) "Power-switch output, IN-OUT1", 8 ~{OC1} (oc) "Channel 1 over-current indicator; the output is open-drain, active low type"

## TPS2066ADRBR
designator U?
Two-Channel, Current-Limited, Power-Distribution Switch, 1.9 A Current Limit, -40 to 85 degC, 8-pin SON (DRB), Green (RoHS & no Sb/Br); Manufacturer: Texas Instruments; PartNumber: TPS2066ADRBR; Continuous Current(Max)(A): 1; Current Limit(A): 1.9; Enable: Active High; Number of Switches: 2; Rating: Catalog; DatasheetVersion: SLVS798F; PackageVersion: revK, Jun-2012; PackageReference: DRB8-2400X1650TP; PackageDescription: 8-Pin Plastic Small Outline No-Lead, 3 x 3 x 1 mm Body, 0.65 mm Pitch, Exposed Pad; Supplier 1: Digi-Key; Supplier Part Number 1: 296-23393-2-ND; Supplier 2: Digi-Key; Supplier Part Number 2: 296-23393-1-ND; Supplier 3: Digi-Key; Supplier Part Number 3: 296-23393-6-ND; Supplier 4: Mouser; Supplier Part Number 4: 595-TPS2066ADRBR; Eco-Plan: Green (RoHS & no Sb/Br); Mounting Technology: Surface Mount; ComponentLink1Description: Datasheet; ComponentLink1URL: http://www.ti.com/general/docs/lit/getliterature.tsp?genericPartNumber=TPS2066A&fileType=pdf
footprint DRB8-2400X1650TP (SON, 8-Leads, Body 3x3mm, Pitch 0.65mm, Thermal Pad 2.4x1.65mm, TI Recommended)
pins: 1 GND (power) "Ground", 2 IN (power) "Input voltage", 3 EN1 (in) "Enable input, logic high turns on power switch IN-OUT1", 4 EN2 (in) "Enable input, logic high turns on power switch IN-OUT2", 5 ~{OC2} (oc) "Channel 2 over-current indicator; the output is open-drain, active low type", 6 OUT2 (power) "Power-switch output, IN-OUT2", 7 OUT1 (power) "Power-switch output, IN-OUT1", 8 ~{OC1} (oc) "Channel 1 over-current indicator; the output is open-drain, active low type", 9 EP (power) "Connect PowerPAD to GND for proper operation (DRB package only)"

## TPS2066ADRBRG4
designator U?
Two-Channel, Current-Limited, Power-Distribution Switch, 1.9 A Current Limit, -40 to 85 degC, 8-pin SON (DRB), Green (RoHS & no Sb/Br); Manufacturer: Texas Instruments; PartNumber: TPS2066ADRBRG4; Continuous Current(Max)(A): 1; Current Limit(A): 1.9; Enable: Active High; Number of Switches: 2; Rating: Catalog; DatasheetVersion: SLVS798F; PackageVersion: revK, Jun-2012; PackageReference: DRB8-2400X1650TP; PackageDescription: 8-Pin Plastic Small Outline No-Lead, 3 x 3 x 1 mm Body, 0.65 mm Pitch, Exposed Pad; Supplier 1: Digi-Key; Supplier Part Number 1: TPS2066ADRBRG4-ND; Supplier 2: Mouser; Supplier Part Number 2: 595-TPS2066ADRBRG4; Eco-Plan: Green (RoHS & no Sb/Br); Mounting Technology: Surface Mount; ComponentLink1Description: Datasheet; ComponentLink1URL: http://www.ti.com/general/docs/lit/getliterature.tsp?genericPartNumber=TPS2066A&fileType=pdf
footprint DRB8-2400X1650TP (SON, 8-Leads, Body 3x3mm, Pitch 0.65mm, Thermal Pad 2.4x1.65mm, TI Recommended)
pins: 1 GND (power) "Ground", 2 IN (power) "Input voltage", 3 EN1 (in) "Enable input, logic high turns on power switch IN-OUT1", 4 EN2 (in) "Enable input, logic high turns on power switch IN-OUT2", 5 ~{OC2} (oc) "Channel 2 over-current indicator; the output is open-drain, active low type", 6 OUT2 (power) "Power-switch output, IN-OUT2", 7 OUT1 (power) "Power-switch output, IN-OUT1", 8 ~{OC1} (oc) "Channel 1 over-current indicator; the output is open-drain, active low type", 9 EP (power) "Connect PowerPAD to GND for proper operation (DRB package only)"

## TPS2066ADRBT
designator U?
Two-Channel, Current-Limited, Power-Distribution Switch, 1.9 A Current Limit, -40 to 85 degC, 8-pin SON (DRB), Green (RoHS & no Sb/Br); Manufacturer: Texas Instruments; PartNumber: TPS2066ADRBT; Continuous Current(Max)(A): 1; Current Limit(A): 1.9; Enable: Active High; Number of Switches: 2; Rating: Catalog; DatasheetVersion: SLVS798F; PackageVersion: revK, Jun-2012; PackageReference: DRB8-2400X1650TP; PackageDescription: 8-Pin Plastic Small Outline No-Lead, 3 x 3 x 1 mm Body, 0.65 mm Pitch, Exposed Pad; Supplier 1: Digi-Key; Supplier Part Number 1: TPS2066ADRBT-ND; Supplier 2: Mouser; Supplier Part Number 2: 595-TPS2066ADRBT; Eco-Plan: Green (RoHS & no Sb/Br); Mounting Technology: Surface Mount; ComponentLink1Description: Datasheet; ComponentLink1URL: http://www.ti.com/general/docs/lit/getliterature.tsp?genericPartNumber=TPS2066A&fileType=pdf
footprint DRB8-2400X1650TP (SON, 8-Leads, Body 3x3mm, Pitch 0.65mm, Thermal Pad 2.4x1.65mm, TI Recommended)
pins: 1 GND (power) "Ground", 2 IN (power) "Input voltage", 3 EN1 (in) "Enable input, logic high turns on power switch IN-OUT1", 4 EN2 (in) "Enable input, logic high turns on power switch IN-OUT2", 5 ~{OC2} (oc) "Channel 2 over-current indicator; the output is open-drain, active low type", 6 OUT2 (power) "Power-switch output, IN-OUT2", 7 OUT1 (power) "Power-switch output, IN-OUT1", 8 ~{OC1} (oc) "Channel 1 over-current indicator; the output is open-drain, active low type", 9 EP (power) "Connect PowerPAD to GND for proper operation (DRB package only)"

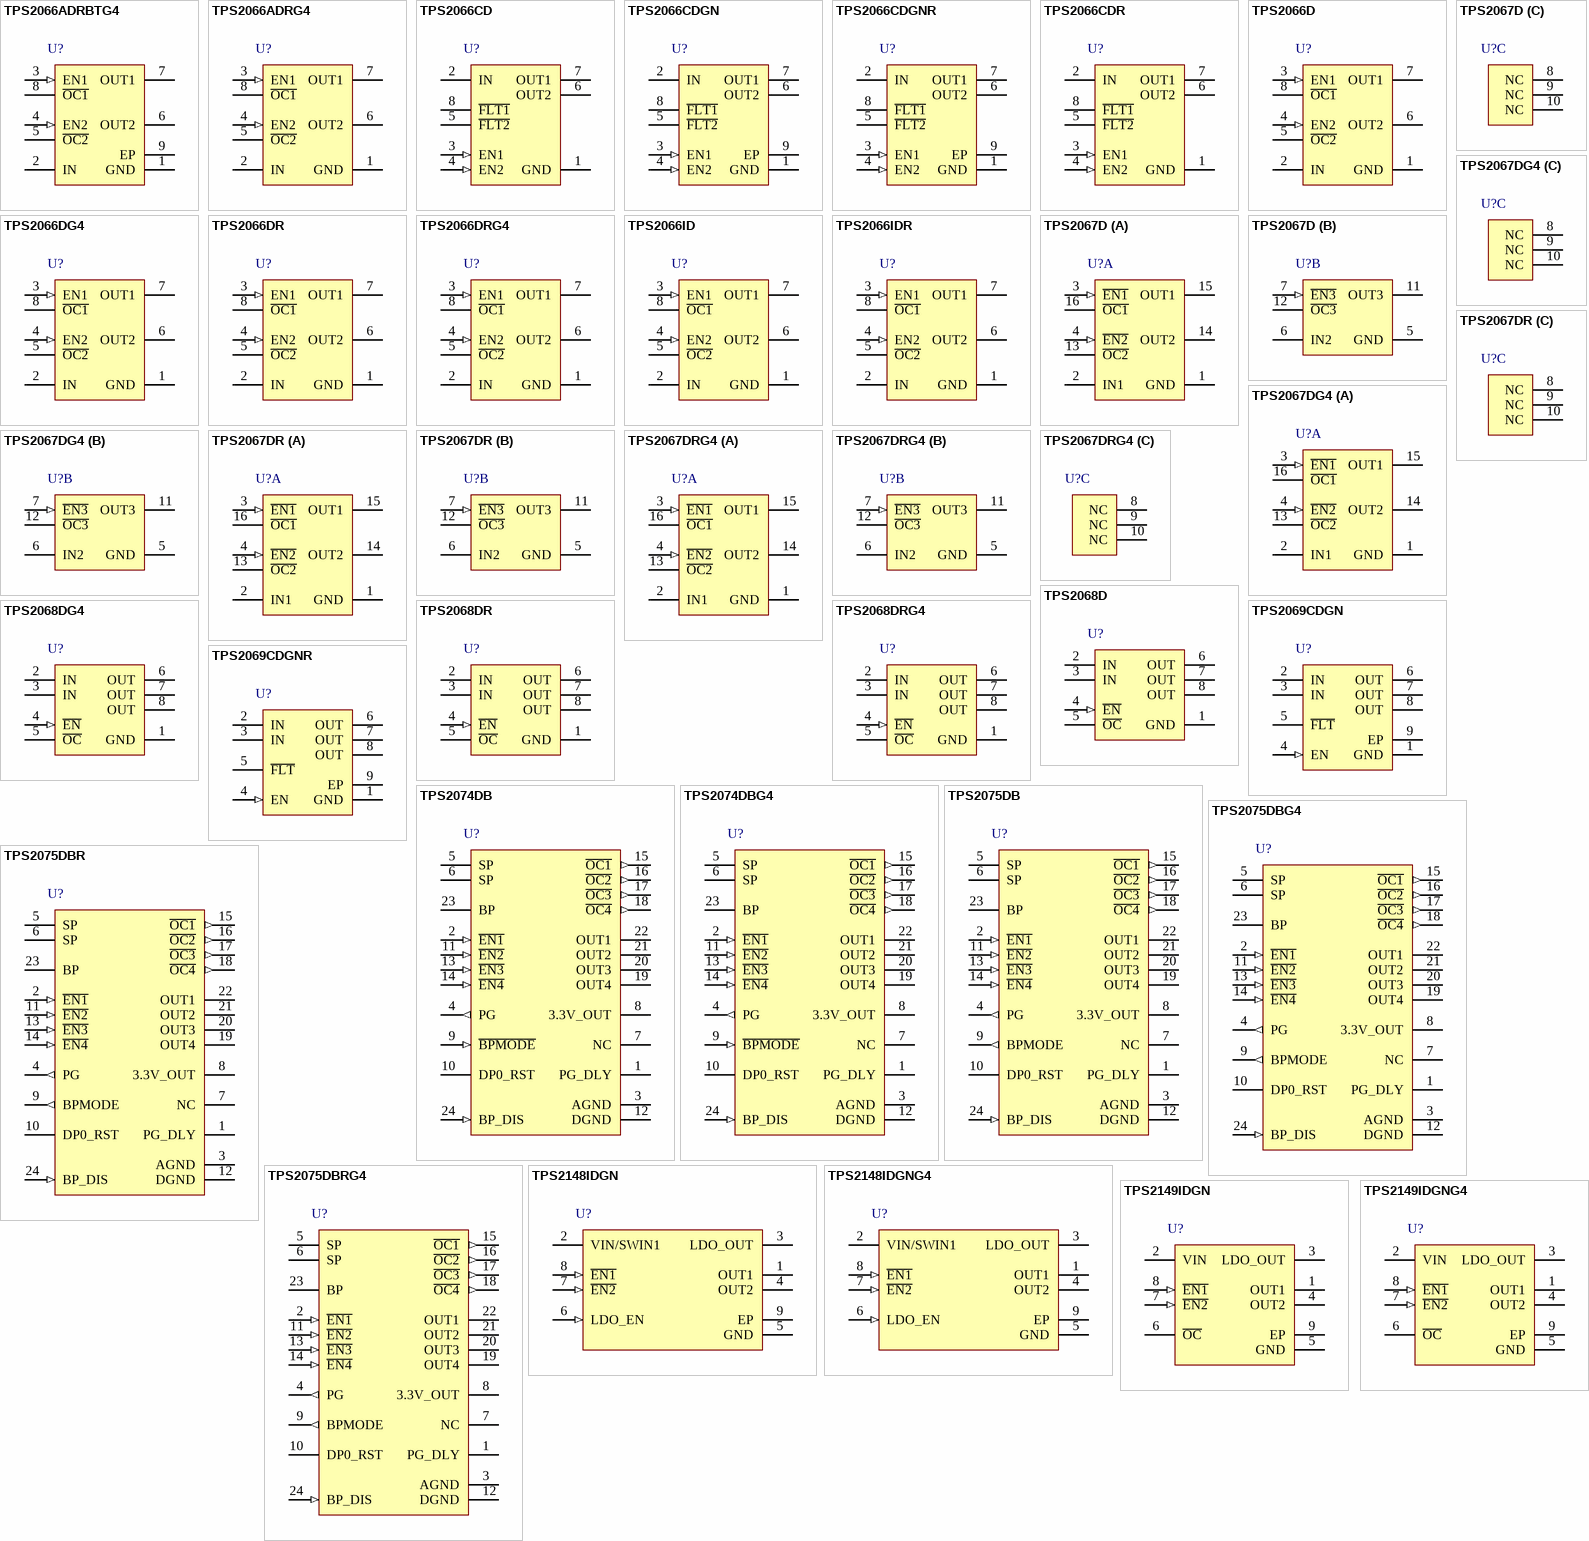
[diagram p6: symbols TPS2066ADRBTG4 to TPS2149IDGNG4]

## TPS2066ADRBTG4
designator U?
Two-Channel, Current-Limited, Power-Distribution Switch, 1.9 A Current Limit, -40 to 85 degC, 8-pin SON (DRB), Green (RoHS & no Sb/Br); Manufacturer: Texas Instruments; PartNumber: TPS2066ADRBTG4; Continuous Current(Max)(A): 1; Current Limit(A): 1.9; Enable: Active High; Number of Switches: 2; Rating: Catalog; DatasheetVersion: SLVS798F; PackageVersion: revK, Jun-2012; PackageReference: DRB8-2400X1650TP; PackageDescription: 8-Pin Plastic Small Outline No-Lead, 3 x 3 x 1 mm Body, 0.65 mm Pitch, Exposed Pad; Supplier 1: Digi-Key; Supplier Part Number 1: TPS2066ADRBTG4-ND; Supplier 2: Mouser; Supplier Part Number 2: 595-TPS2066ADRBTG4; Eco-Plan: Green (RoHS & no Sb/Br); Mounting Technology: Surface Mount; ComponentLink1Description: Datasheet; ComponentLink1URL: http://www.ti.com/general/docs/lit/getliterature.tsp?genericPartNumber=TPS2066A&fileType=pdf
footprint DRB8-2400X1650TP (SON, 8-Leads, Body 3x3mm, Pitch 0.65mm, Thermal Pad 2.4x1.65mm, TI Recommended)
pins: 1 GND (power) "Ground", 2 IN (power) "Input voltage", 3 EN1 (in) "Enable input, logic high turns on power switch IN-OUT1", 4 EN2 (in) "Enable input, logic high turns on power switch IN-OUT2", 5 ~{OC2} (oc) "Channel 2 over-current indicator; the output is open-drain, active low type", 6 OUT2 (power) "Power-switch output, IN-OUT2", 7 OUT1 (power) "Power-switch output, IN-OUT1", 8 ~{OC1} (oc) "Channel 1 over-current indicator; the output is open-drain, active low type", 9 EP (power) "Connect PowerPAD to GND for proper operation (DRB package only)"

## TPS2066ADRG4
designator U?
Two-Channel, Current-Limited, Power-Distribution Switch, 1.9 A Current Limit, -40 to 85 degC, 8-pin SOIC (D), Green (RoHS & no Sb/Br); Manufacturer: Texas Instruments; PartNumber: TPS2066ADRG4; Continuous Current(Max)(A): 1; Current Limit(A): 1.9; Enable: Active High; Number of Switches: 2; Rating: Catalog; DatasheetVersion: SLVS798F; PackageVersion: revM, Jun-2011; PackageReference: D8; PackageDescription: 8-Pin Plastic Small Outline Integrated Circuit, 4.9 x 3.9 mm, Pitch 1.27 mm Pitch; Supplier 1: Digi-Key; Supplier Part Number 1: TPS2066ADRG4-ND; Supplier 2: Mouser; Supplier Part Number 2: 595-TPS2066ADRG4; Eco-Plan: Green (RoHS & no Sb/Br); Mounting Technology: Surface Mount; Code_JEDEC: MS-012AA; ComponentLink1Description: Datasheet; ComponentLink1URL: http://www.ti.com/general/docs/lit/getliterature.tsp?genericPartNumber=TPS2066A&fileType=pdf
footprint D8_N (SOIC, 8-Leads, Body 4.9x3.9mm, Pitch 1.27mm, IPC Medium Density)
footprint D8_L (SOIC, 8-Leads, Body 4.9x3.9mm, Pitch 1.27mm, IPC High Density)
footprint D8_M (SOIC, 8-Leads, Body 4.9x3.9mm, Pitch 1.27mm, IPC Low Density)
pins: 1 GND (power) "Ground", 2 IN (power) "Input voltage", 3 EN1 (in) "Enable input. Logic high turns on power switch, IN-OUT1.", 4 EN2 (in) "Enable input. Logic high turns on power switch, IN-OUT2.", 5 ~{OC2} (oc) "Channel 2 over-current indicator; the output is open-drain, active low type", 6 OUT2 (power) "Power-switch output, IN-OUT2", 7 OUT1 (power) "Power-switch output, IN-OUT1", 8 ~{OC1} (oc) "Channel 1 over-current indicator; the output is open-drain, active low type"

## TPS2066CD
designator U?
Dual-Channel, Current-Limited, Power-Distribution Switch, 1.11 to 1.85 A Current Limit, -40 to 85 degC, 8-pin SOIC (D), Green (RoHS & no Sb/Br); Manufacturer: Texas Instruments; PartNumber: TPS2066CD; Continuous Current(Max)(A): 1; Current Limit Accuracy @ 1A: +/- 25%; Current Limit Topology: Constant-Current; Enable: Active High; Number of Switches: 2; Rating: Catalog; rDS(on) per FET(Typ)(mOhms): 70; Vin(Max)(V): 5.5; Vin(Min)(V): 4.5; DatasheetVersion: SLVSAX6E; PackageVersion: revM, Jun-2011; PackageReference: D8; PackageDescription: 8-Pin Plastic Small Outline Integrated Circuit, 4.9 x 3.9 mm, Pitch 1.27 mm Pitch; Supplier 1: Digi-Key; Supplier Part Number 1: 296-30609-5-ND; Supplier 2: Newark; Supplier Part Number 2: 27W9719; Supplier 3: Mouser; Supplier Part Number 3: 595-TPS2066CD; Current Limit(A): 1.11 to 1.85; Mounting Technology: Surface Mount; Code_JEDEC: MS-012AA; ComponentLink1Description: Datasheet; ComponentLink1URL: http://www.ti.com/general/docs/lit/getliterature.tsp?genericPartNumber=TPS2066C&fileType=pdf
footprint D8_N (SOIC, 8-Leads, Body 4.9x3.9mm, Pitch 1.27mm, IPC Medium Density)
footprint D8_L (SOIC, 8-Leads, Body 4.9x3.9mm, Pitch 1.27mm, IPC High Density)
footprint D8_M (SOIC, 8-Leads, Body 4.9x3.9mm, Pitch 1.27mm, IPC Low Density)
pins: 1 GND (power) "Ground connection", 2 IN (power) "Input voltage and power-switch drain; connect a 0.1 uF or greater ceramic capacitor from IN to GND close to the IC", 3 EN1 (in) "Enable input channel 1, logic high turns on power switch", 4 EN2 (in) "Enable input channel 2, logic high turns on power switch", 5 ~{FLT2} (hiz) "Active-low open-drain output, asserted during overcurrent, or overtemperature conditions on channel 2", 6 OUT2 (power) "Power-switch output channel 2, connected to load", 7 OUT1 (power) "Power-switch output channel 1, connected to load", 8 ~{FLT1} (hiz) "Active-low open-drain output, asserted during overcurrent, or overtemperature conditions on channel 1"

## TPS2066CDGN
designator U?
Dual-Channel, Current-Limited, Power-Distribution Switch, 1.11 to 1.85 A Current Limit, -40 to 85 degC, 8-pin MSOP-PowerPAD (DGN), Green (RoHS & no Sb/Br); Manufacturer: Texas Instruments; PartNumber: TPS2066CDGN; Continuous Current(Max)(A): 1; Current Limit Accuracy @ 1A: +/- 25%; Current Limit Topology: Constant-Current; Enable: Active High; Number of Switches: 2; Rating: Catalog; rDS(on) per FET(Typ)(mOhms): 70; Vin(Max)(V): 5.5; Vin(Min)(V): 4.5; DatasheetVersion: SLVSAX6E; PackageVersion: revF, May-2011; PackageReference: DGN8-1760X1425TP; PackageDescription: 8-Pin PowerPAD Plastic Small Outline Package 3 x 3 mm Body ,0.65 mm Pitch, Exposed Pad; Supplier 1: Digi-Key; Supplier Part Number 1: 296-30310-5-ND; Supplier 2: Farnell; Supplier Part Number 2: 2099917; Supplier 3: Newark; Supplier Part Number 3: 05W5846; Supplier 4: Newark; Supplier Part Number 4: 92T2357; Supplier 5: Mouser; Supplier Part Number 5: 595-TPS2066CDGN; Current Limit(A): 1.11 to 1.85; Eco-Plan: Green (RoHS & no Sb/Br); Mounting Technology: Surface Mount; Code_JEDEC: MO-187-AA-T; ComponentLink1Description: Datasheet; ComponentLink1URL: http://www.ti.com/general/docs/lit/getliterature.tsp?genericPartNumber=TPS2066C&fileType=pdf
footprint DGN8-1760X1425TP_N (TSOP, 8-Leads, Body 3x3mm, Pitch 0.65mm, Thermal Pad 1.89x1.57mm, IPC Medium Density)
footprint DGN8-1760X1425TP_L (TSOP, 8-Leads, Body 3x3mm, Pitch 0.65mm, Thermal Pad 1.89x1.57mm, IPC High Density)
footprint DGN8-1760X1425TP_M (TSOP, 8-Leads, Body 3x3mm, Pitch 0.65mm, Thermal Pad 1.89x1.57mm, IPC Low Density)
pins: 1 GND (power) "Ground connection", 2 IN (power) "Input voltage and power-switch drain; connect a 0.1 uF or greater ceramic capacitor from IN to GND close to the IC", 3 EN1 (in) "Enable input channel 1, logic high turns on power switch", 4 EN2 (in) "Enable input channel 2, logic high turns on power switch", 5 ~{FLT2} (hiz) "Active-low open-drain output, asserted during overcurrent, or overtemperature conditions on channel 2", 6 OUT2 (power) "Power-switch output channel 2, connected to load", 7 OUT1 (power) "Power-switch output channel 1, connected to load", 8 ~{FLT1} (hiz) "Active-low open-drain output, asserted during overcurrent, or overtemperature conditions on channel 1", 9 EP (power) "Internally connected to GND; used to heat-sink the part to the circuit board traces. Connect PAD to GND plane as a heatsink."

## TPS2066CDGNR
designator U?
Dual-Channel, Current-Limited, Power-Distribution Switch, 1.11 to 1.85 A Current Limit, -40 to 85 degC, 8-pin MSOP-PowerPAD (DGN), Green (RoHS & no Sb/Br); Manufacturer: Texas Instruments; PartNumber: TPS2066CDGNR; Continuous Current(Max)(A): 1; Current Limit Accuracy @ 1A: +/- 25%; Current Limit Topology: Constant-Current; Enable: Active High; Number of Switches: 2; Rating: Catalog; rDS(on) per FET(Typ)(mOhms): 70; Vin(Max)(V): 5.5; Vin(Min)(V): 4.5; DatasheetVersion: SLVSAX6E; PackageVersion: revF, May-2011; PackageReference: DGN8-1760X1425TP; PackageDescription: 8-Pin PowerPAD Plastic Small Outline Package 3 x 3 mm Body ,0.65 mm Pitch, Exposed Pad; Supplier 1: Digi-Key; Supplier Part Number 1: TPS2066CDGNR-ND; Supplier 2: Newark; Supplier Part Number 2: 92T2359; Supplier 3: Mouser; Supplier Part Number 3: 595-TPS2066CDGNR; Current Limit(A): 1.11 to 1.85; Eco-Plan: Green (RoHS & no Sb/Br); Mounting Technology: Surface Mount; Code_JEDEC: MO-187-AA-T; ComponentLink1Description: Datasheet; ComponentLink1URL: http://www.ti.com/general/docs/lit/getliterature.tsp?genericPartNumber=TPS2066C&fileType=pdf
footprint DGN8-1760X1425TP_N (TSOP, 8-Leads, Body 3x3mm, Pitch 0.65mm, Thermal Pad 1.89x1.57mm, IPC Medium Density)
footprint DGN8-1760X1425TP_L (TSOP, 8-Leads, Body 3x3mm, Pitch 0.65mm, Thermal Pad 1.89x1.57mm, IPC High Density)
footprint DGN8-1760X1425TP_M (TSOP, 8-Leads, Body 3x3mm, Pitch 0.65mm, Thermal Pad 1.89x1.57mm, IPC Low Density)
pins: 1 GND (power) "Ground connection", 2 IN (power) "Input voltage and power-switch drain; connect a 0.1 uF or greater ceramic capacitor from IN to GND close to the IC", 3 EN1 (in) "Enable input channel 1, logic high turns on power switch", 4 EN2 (in) "Enable input channel 2, logic high turns on power switch", 5 ~{FLT2} (hiz) "Active-low open-drain output, asserted during overcurrent, or overtemperature conditions on channel 2", 6 OUT2 (power) "Power-switch output channel 2, connected to load", 7 OUT1 (power) "Power-switch output channel 1, connected to load", 8 ~{FLT1} (hiz) "Active-low open-drain output, asserted during overcurrent, or overtemperature conditions on channel 1", 9 EP (power) "Internally connected to GND; used to heat-sink the part to the circuit board traces. Connect PAD to GND plane as a heatsink."